# EAGLE library part AXOLOTI_SHIELD (library axoloti_diy)
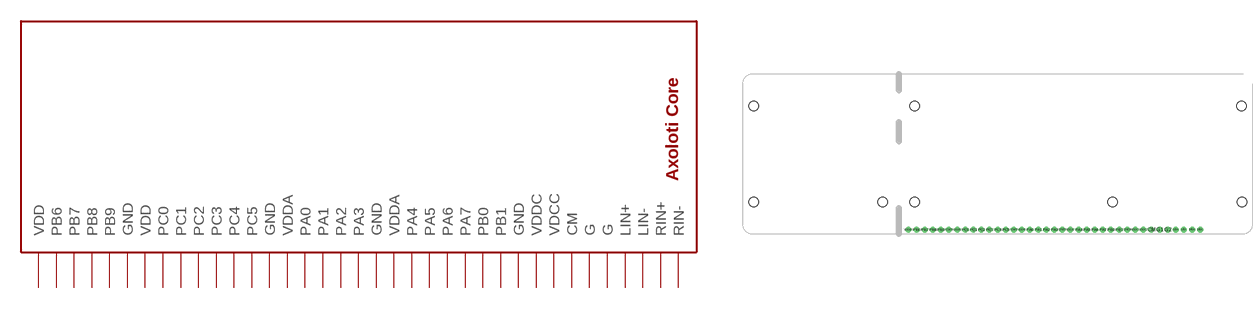
[diagram p0: symbol with the pads of AXOLOTI_SHIELD; footprint AXOLOTI_SHIELD]

Designator prefix -

## AXOLOTI_SHIELD  [AXOLOTI_SHIELD]
CM  CM
G1  G
G2  G
GND1  GND
GND2  GND
GND3  GND
GND4  GND
LIN+  LIN+
LIN-  LIN-
PA0  PA0
PA1  PA1
PA2  PA2
PA3  PA3
PA4  PA4
PA5  PA5
PA6  PA6
PA7  PA7
PB0  PB0
PB1  PB1
PB6  PB6
PB7  PB7
PB8  PB8
PB9  PB9
PC0  PC0
PC1  PC1
PC2  PC2
PC3  PC3
PC4  PC4
PC5  PC5
RIN+  RIN+
RIN-  RIN-
VDD@1  VDD
VDD@2  VDD
VDDA1  VDDA
VDDA2  VDDA
VDDC1  VDDC
VDDC2  VDCC

## Footprint AXOLOTI_SHIELD (pad centres in mm)
This Part should help people building their own machines based on the awesome axoloti core.
drill 1.016 pad 1.88: CM 128.27,1.27; G1 130.81,1.27; G2 133.35,1.27; GND1 64.77,1.27; GND2 85.09,1.27; GND3 100.33,1.27; GND4 120.65,1.27; LIN+ 135.89,1.27; LIN- 138.43,1.27; PA0 90.17,1.27; PA1 92.71,1.27; PA2 95.25,1.27; PA3 97.79,1.27; PA4 105.41,1.27; PA5 107.95,1.27; PA6 110.49,1.27; PA7 113.03,1.27; PB0 115.57,1.27; PB1 118.11,1.27; PB6 54.61,1.27; PB7 57.15,1.27; PB8 59.69,1.27; PB9 62.23,1.27; PC0 69.85,1.27; PC1 72.39,1.27; PC2 74.93,1.27; PC3 77.47,1.27; PC4 80.01,1.27; PC5 82.55,1.27; RIN+ 140.97,1.27; RIN- 143.51,1.27; VDD@1 52.07,1.27; VDD@2 67.31,1.27; VDDA1 87.63,1.27; VDDA2 102.87,1.27; VDDC1 123.19,1.27; VDDC2 125.73,1.27
hole 3 at 3.5,10
hole 3 at 3.5,40
hole 3 at 44,10
hole 3 at 54,10
hole 3 at 54,40
hole 3 at 116,10
hole 3 at 156.6,10
hole 3 at 156.5,40